# Altium schematic symbol library TPS7150QDR.SchLib: 1 symbol
Pins are listed as number, name and electrical type; pins without a type are passive.

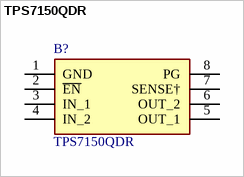
[diagram p0: symbol TPS7150QDR]

## TPS7150QDR
designator B?
LDO Voltage Regulators Lowest Dropout PMOS; Manufacturer_Name: Texas Instruments; Geometry.Height: 1.75mm; Mouser Part Number: 595-TPS7150QDR; Mouser Price/Stock: https://www.mouser.co.uk/ProductDetail/Texas-Instruments/TPS7150QDR?qs=Gse6rAGbi79xIQtuYfAffQ%3D%3D; Manufacturer_Part_Number: TPS7150QDR; Datasheet Link: https://www.ti.com/lit/gpn/TPS71
footprint SOIC127P600X175-8N
pins: 1 GND, 2 ~{EN}, 3 IN_1, 4 IN_2, 5 OUT_1, 6 OUT_2, 7 SENSE†, 8 PG